# EAGLE library part DIPSWITCH_6 (library 2000dB)
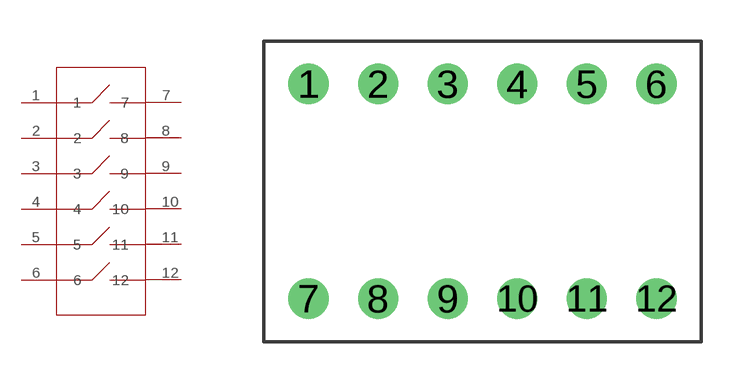
[diagram p12: symbol with the pads of DIPSWITCH6; footprint DIPSWITCH6]

Designator prefix -

## DIPSWITCH_6  [DIPSWITCH6]
1  1
2  2
3  3
4  4
5  5
6  6
7  7
8  8
9  9
10  10
11  11
12  12

## Footprint DIPSWITCH6 (pad centres in mm)
drill 0.97 round: 1 -6.35,3.925; 2 -3.81,3.925; 3 -1.27,3.925; 4 1.27,3.925; 5 3.81,3.925; 6 6.35,3.925; 7 -6.35,-3.925; 8 -3.81,-3.925; 9 -1.27,-3.925; 10 1.27,-3.925; 11 3.81,-3.925; 12 6.35,-3.925